# Altium schematic symbol library SIMBOLS_SEMICONDUCTORS.SchLib: 22 symbols
Pins are listed as number, name and electrical type; pins without a type are passive.

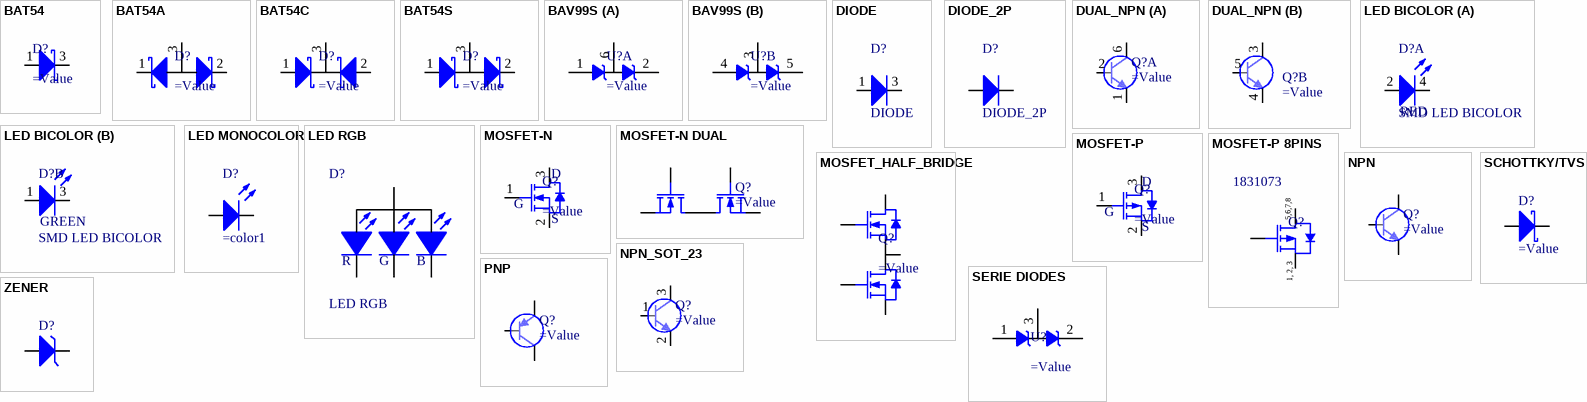
[diagram p0: symbols BAT54 to ZENER]

## BAT54
designator D?
pins: 1 A, 3 K

## BAT54A
designator D?
pins: 1 K1, 2 K2, 3 A

## BAT54C
designator D?
pins: 1 A1, 2 A2, 3

## BAT54S
designator D?
pins: 1 A1, 2 K2, 3 K1A2

## BAV99S
designator U?
BAV99S
part A pins: 1 IO1-1, 2 GND, 6 IO2-1
part B pins: 3 IO2-1, 4 IO1-1, 5 GND

## DIODE
designator D?
pins: 1 A "Red A", 3 K "Red K"

## DIODE_2P
designator D?
DIODE; Published: 8-Jun-2000; LatestRevisionDate: 08-Jul-2005; LatestRevisionNote: Mech Layer 1 removed.; Publisher: Altium Limited; PackageDescription: SOT23; Diameter: 3mm
pins: 1 K "Red K", 2 A "Red A"

## DUAL_NPN
designator Q?
NPN; Published: 8-Jun-2000; LatestRevisionDate: 15-Jan-2003; LatestRevisionNote: PCB Footprint 'BCY-W3/D4.7' replaced; DatasheetVersion: 1997; PackageVersion: Sep-1998; PackageReference: TO-92A; Publisher: Altium Limited; PackageDescription: TO, Flat Index; 3 In-Line, Axial Leads; Body Dia. 4.5mm; Leads 0.51 x 0.48 mm (max); ComponentLink1Description: Manufacturer Link; ComponentLink1URL: http://www.fairchildsemi.com/; ComponentLink2Description: Datasheet; ComponentLink2URL: http://www.fairchildsemi.com/ds/2N%2F2N3904.pdf
part A pins: 1 E, 2 B, 6 C
part B pins: 3 C, 4 E, 5 B

## LED BICOLOR
designator D?, comment SMD LED BICOLOR
LED BICOLOR; Published: 8-Jun-2000; LatestRevisionDate: 08-Jul-2005; LatestRevisionNote: Mech Layer 1 removed.; PackageReference: LED-0; Publisher: Altium Limited; PackageDescription: LED; 4 Leads; Diameter: 3mm
part A pins: 2 A "Red A", 4 K "Red K"
part B pins: 1 A "Green A", 3 K "Green K"
part A text: RED
part B text: GREEN

## LED MONOCOLOR
designator D?
LED MONOCOLOR
pins: 1 A, 2 K

## LED RGB
designator D?
pins: 1 R, 2 C, 3 B, 4 G

## MOSFET-N
designator Q?
MOSFET-N
pins: 1 G, 2 S, 3 D

## MOSFET-N DUAL
designator Q?
MOSFET-N DUAL
pins: 1 S1, 2 G1, 3 S2, 4 G2, 5 D, 6 D, 7 D, 8 D, 9 D

## MOSFET-P
designator Q?
MOSFET-P
pins: 1 G, 2 S, 3 D

## MOSFET-P 8PINS
designator Q?  Supplier Part Number 1: 1831073
MOSFET-P 8PINS; Supplier 1: Farnell
pins: 1 S, 2 S, 3 S, 4 G, 5 D, 6 D, 7 D, 8 D
text: 5,6,7,8; 1, 2, 3

## MOSFET_HALF_BRIDGE
designator Q?
MOSFET HALF BRIDGE
pins: 1 D1, 2 G1, 3 S1/D2, 4 G2, 5 S2

## NPN
designator Q?
NPN; Published: 8-Jun-2000; LatestRevisionDate: 15-Jan-2003; LatestRevisionNote: PCB Footprint 'BCY-W3/D4.7' replaced; DatasheetVersion: 1997; PackageVersion: Sep-1998; PackageReference: TO-92A; Publisher: Altium Limited; PackageDescription: TO, Flat Index; 3 In-Line, Axial Leads; Body Dia. 4.5mm; Leads 0.51 x 0.48 mm (max); ComponentLink1Description: Manufacturer Link; ComponentLink1URL: http://www.fairchildsemi.com/; ComponentLink2Description: Datasheet; ComponentLink2URL: http://www.fairchildsemi.com/ds/2N%2F2N3904.pdf
pins: 1 E, 2 B, 3 C

## NPN_SOT_23
designator Q?
NPN; Published: 8-Jun-2000; LatestRevisionDate: 15-Jan-2003; LatestRevisionNote: PCB Footprint 'BCY-W3/D4.7' replaced; DatasheetVersion: 1997; PackageVersion: Sep-1998; PackageReference: TO-92A; Publisher: Altium Limited; PackageDescription: TO, Flat Index; 3 In-Line, Axial Leads; Body Dia. 4.5mm; Leads 0.51 x 0.48 mm (max); ComponentLink1Description: Manufacturer Link; ComponentLink1URL: http://www.fairchildsemi.com/; ComponentLink2Description: Datasheet; ComponentLink2URL: http://www.fairchildsemi.com/ds/2N%2F2N3904.pdf
pins: 1 B, 2 E, 3 C

## PNP
designator Q?
PNP; Published: 8-Jun-2000; LatestRevisionDate: 15-Jan-2003; LatestRevisionNote: PCB Footprint 'BCY-W3/D4.7' replaced; DatasheetVersion: 1997; PackageVersion: Sep-1998; PackageReference: TO-92A; Publisher: Altium Limited; PackageDescription: TO, Flat Index; 3 In-Line, Axial Leads; Body Dia. 4.5mm; Leads 0.51 x 0.48 mm (max); ComponentLink1Description: Manufacturer Link; ComponentLink1URL: http://www.fairchildsemi.com/; ComponentLink2Description: Datasheet; ComponentLink2URL: http://www.fairchildsemi.com/ds/2N%2F2N3906.pdf
pins: 1 E, 2 B, 3 C

## SCHOTTKY/TVS
designator D?
SCHOTTKY/TVS; Note: Pin 2 is not connected and not drawn.; Published: 21-Mar-2003; LatestRevisionDate: 29-May-2009; LatestRevisionNote: IPC-7351 Footprint Added.; DatasheetVersion: Oct-1999; PackageVersion: Sep-2001; PackageReference: SOT-23; Publisher: Altium Limited; PackageDescription: 3-Pin SOT-23 Package 0.95 mm Pitch, 2.5 mm Lead Span; ComponentLink1Description: Manufacturer Link; ComponentLink1URL: http://www.infineon.com/; ComponentLink2Description: Datasheet; ComponentLink2URL: http://www.infineon.com/upload/Document/cmc_upload/documents/009/363/bat17series.pdf
pins: 1 A, 2 K

## SERIE DIODES
designator U?
SERIE DIODES
pins: 1 IO1-1, 2 GND, 3 IO2-1

## ZENER
designator D?
ZENER; PackageDescription: PTZTE259.1B
pins: 1 A, 2 K